# Altium footprint library FPG-YAY.PcbLib: 8 footprints
Each footprint in its own frame and in the unit in brackets; x right, y up, seen from the top. Pads: shape width x height; smd on the part's side, far side on the other; paste and mask are expansions set on the pad; w line width, h text height; cw(c..) or ccw(c..) is an arc to the next point about the centre after c.
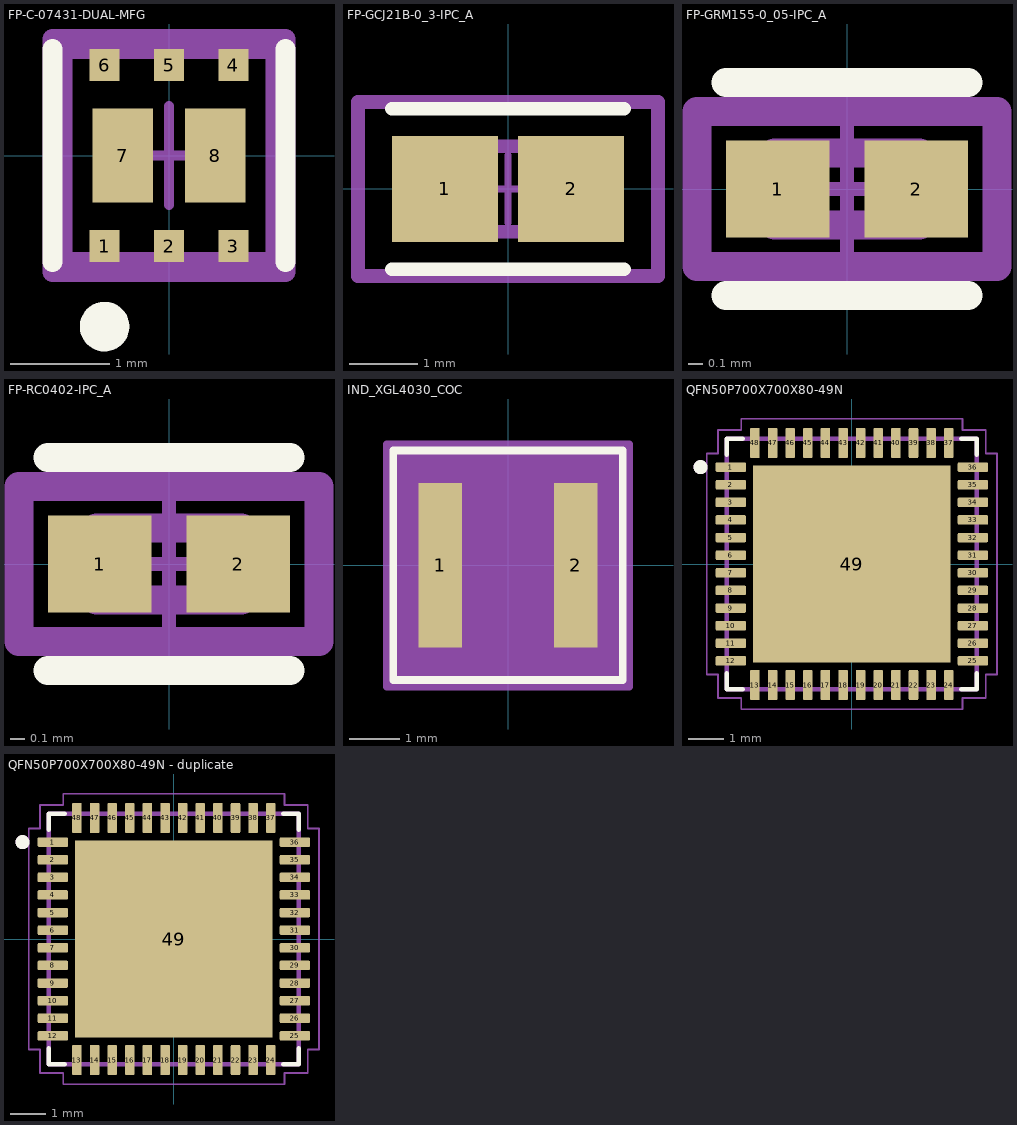
[diagram p0: the footprints below, top view; thin cyan lines are the x and y axes]

## FP-C-07431-DUAL-MFG [mm]
pads (8):
  rect 0.3x0.325 smd paste+0 mask+0: 1(-0.65,-0.913) 2(0,-0.913) 3(0.65,-0.913) 4(0.65,0.913) 5(0,0.913) 6(-0.65,0.913)
  rect 0.613x0.95 smd paste+0 mask+0: 7(-0.466,0) 8(0.466,0)
Top Overlay:
  circle w0.25: c-0.65,-1.725 r0.125
  lines w0.2: -1.175,-1.075 -1.175,1.075 ; 1.175,-1.075 1.175,1.075
Top 3D Body:
  lines w0.2: -1.075,-1.075 -1.075,1.075 1.075,1.075 1.075,-1.075 -1.075,-1.075
Top Courtyard:
  lines w0.2: -1.175,-1.175 -1.175,1.175 1.175,1.175 1.175,-1.175 -1.175,-1.175
Top Assembly:
  lines w0.2: -1.175,-1.175 -1.175,1.175 1.175,1.175 1.175,-1.175 -1.175,-1.175
  text ".Designator" at 0,0.188 h1
Top Component Center:
  lines w0.1: -0.5,0 0.5,0 ; 0,-0.5 0,0.5
3D body "Trans_Vishay_SIA906EDJ-T1-GE3_eec.STEP": height 0.25, standoff 0, extent -1.175,-1.175 1.175,1.175

## FP-GCJ21B-0_3-IPC_A [mm]
pads (2):
  rect 1.553x1.556 smd paste+0 mask+0: 1(-0.925,0) 2(0.925,0)
Top Overlay:
  lines w0.2: -1.702,-1.178 1.702,-1.178 ; -1.702,1.178 1.702,1.178
Top 3D Body:
  lines w0.2: -1,-0.625 1,-0.625 1,0.625 -1,0.625 -1,-0.625
Top Courtyard:
  lines w0.2: -2.202,-1.278 2.202,-1.278 2.202,1.278 -2.202,1.278 -2.202,-1.278
Top Assembly:
  lines w0.2: -2.202,-1.278 2.202,-1.278 2.202,1.278 -2.202,1.278 -2.202,-1.278
  text ".Designator" at 0,0.188 h1
Top Component Center:
  lines w0.1: -0.5,0 0.5,0 ; 0,-0.5 0,0.5
3D body "Cap_Murata_GCJ21BR71H105KA01K_eec.STEP": height 0.25, standoff 0, extent -2.202,-1.278 2.202,1.278

## FP-GRM155-0_05-IPC_A [mm]
pads (2):
  rect 0.715x0.672 smd paste+0 mask+0: 1(-0.479,0) 2(0.479,0)
Top Overlay:
  lines w0.2: -0.836,-0.736 0.836,-0.736 ; -0.836,0.736 0.836,0.736
Top 3D Body:
  lines w0.2: -0.5,-0.25 -0.5,0.25 0.5,0.25 0.5,-0.25 -0.5,-0.25
Top Courtyard:
  lines w0.2: -1.036,-0.536 -1.036,0.536 1.036,0.536 1.036,-0.536 -1.036,-0.536
Top Assembly:
  lines w0.2: -1.036,-0.536 -1.036,0.536 1.036,0.536 1.036,-0.536 -1.036,-0.536
  text ".Designator" at 0,0.188 h1
Top Component Center:
  lines w0.1: -0.5,0 0.5,0 ; 0,-0.5 0,0.5
3D body "Cap_Murata_GRM1552C1H271GA01J_eec.STEP": height 0.25, standoff 0, extent -1.036,-0.536 1.036,0.536

## FP-RC0402-IPC_A [mm]
pads (2):
  rect 0.715x0.672 smd paste+0 mask+0: 1(-0.479,0) 2(0.479,0)
Top Overlay:
  lines w0.2: -0.836,-0.736 0.836,-0.736 ; -0.836,0.736 0.836,0.736
Top 3D Body:
  lines w0.2: -0.5,-0.25 0.5,-0.25 0.5,0.25 -0.5,0.25 -0.5,-0.25
Top Courtyard:
  lines w0.2: -1.036,-0.536 1.036,-0.536 1.036,0.536 -1.036,0.536 -1.036,-0.536
Top Assembly:
  lines w0.2: -1.036,-0.536 1.036,-0.536 1.036,0.536 -1.036,0.536 -1.036,-0.536
  text ".Designator" at 0,0.188 h1
Top Component Center:
  lines w0.1: -0.5,0 0.5,0 ; 0,-0.5 0,0.5
3D body "Res_Yageo_RC0402FR-075KL_eec.STEP": height 0.25, standoff 0, extent -1.036,-0.536 1.036,0.536

## IND_XGL4030_COC [mil]
pads (2):
  rect 34x128 smd paste+0 mask+0: 1(-53,0) 2(53,0)
Top Overlay:
  lines w6: -89.5,-89.5 89.5,-89.5 89.5,89.5 -89.5,89.5 -89.5,-89.5
Mechanical 13:
  circle w0: c-36,0 r3
  lines w0: -12,84.5 ccw(c0,84.5) 12,84.5
  lines w1: -84.5,-84.5 84.5,-84.5 84.5,84.5 -84.5,84.5 -84.5,-84.5
Mechanical 15:
  region: -94.5,-74 -94.5,74 -94.5,94.5 94.5,94.5 94.5,74 94.5,-74 94.5,-94.5 -94.5,-94.5
  lines w6: -94.5,-94.5 -94.5,-74 -94.5,74 -94.5,94.5 94.5,94.5 94.5,74 94.5,-74 94.5,-94.5 -94.5,-94.5
3D body "IND_XGL4030_COC.step": height 122.09, standoff 0, extent -84.49,-84.49 84.49,84.49

## PCBComponent_1 [mm]

## QFN50P700X700X80-49N [mm]
pads (49):
  rrect25% 0.86x0.27 smd: 1(-3.435,2.75) 2(-3.435,2.25) 3(-3.435,1.75) 4(-3.435,1.25) 5(-3.435,0.75) 6(-3.435,0.25) 7(-3.435,-0.25) 8(-3.435,-0.75) 9(-3.435,-1.25) 10(-3.435,-1.75) 11(-3.435,-2.25) 12(-3.435,-2.75) 25(3.435,-2.75) 26(3.435,-2.25) 27(3.435,-1.75) 28(3.435,-1.25) 29(3.435,-0.75) 30(3.435,-0.25) 31(3.435,0.25) 32(3.435,0.75) 33(3.435,1.25) 34(3.435,1.75) 35(3.435,2.25) 36(3.435,2.75)
  rrect25% 0.27x0.86 smd: 13(-2.75,-3.435) 14(-2.25,-3.435) 15(-1.75,-3.435) 16(-1.25,-3.435) 17(-0.75,-3.435) 18(-0.25,-3.435) 19(0.25,-3.435) 20(0.75,-3.435) 21(1.25,-3.435) 22(1.75,-3.435) 23(2.25,-3.435) 24(2.75,-3.435) 37(2.75,3.435) 38(2.25,3.435) 39(1.75,3.435) 40(1.25,3.435) 41(0.75,3.435) 42(0.25,3.435) 43(-0.25,3.435) 44(-0.75,3.435) 45(-1.25,3.435) 46(-1.75,3.435) 47(-2.25,3.435) 48(-2.75,3.435)
  rect 5.6x5.6 smd paste-4: 49(0,0)
Top Overlay:
  circle w0.2: c-4.295,2.75 r0.1
  lines w0.127: -3.55,-3.1 -3.55,-3.55 -3.1,-3.55 ; -3.55,3.1 -3.55,3.55 -3.1,3.55 ; 3.1,-3.55 3.55,-3.55 3.55,-3.1 ; 3.1,3.55 3.55,3.55 3.55,3.1
Top Paste:
  region: 1.771,-1.774 -1.774,-1.774 -1.774,1.771 1.771,1.771
Mechanical 13:
  circle w0.2: c-4.295,2.75 r0.1
  lines w0.127: -3.55,-3.55 3.55,-3.55 3.55,3.55 -3.55,3.55 -3.55,-3.55
Mechanical 15:
  lines w0.05: -4.12,-3.14 -3.8,-3.14 -3.8,-3.8 -3.14,-3.8 -3.14,-4.12 3.14,-4.12 3.14,-3.8 3.8,-3.8 3.8,-3.14 4.12,-3.14 4.12,3.14 3.8,3.14 3.8,3.8 3.14,3.8 3.14,4.12 -3.14,4.12 -3.14,3.8 -3.8,3.8 -3.8,3.14 -4.12,3.14 -4.12,-3.14

## QFN50P700X700X80-49N - duplicate [mm]
pads (49):
  rrect25% 0.86x0.27 smd: 1(-3.435,2.75) 2(-3.435,2.25) 3(-3.435,1.75) 4(-3.435,1.25) 5(-3.435,0.75) 6(-3.435,0.25) 7(-3.435,-0.25) 8(-3.435,-0.75) 9(-3.435,-1.25) 10(-3.435,-1.75) 11(-3.435,-2.25) 12(-3.435,-2.75) 25(3.435,-2.75) 26(3.435,-2.25) 27(3.435,-1.75) 28(3.435,-1.25) 29(3.435,-0.75) 30(3.435,-0.25) 31(3.435,0.25) 32(3.435,0.75) 33(3.435,1.25) 34(3.435,1.75) 35(3.435,2.25) 36(3.435,2.75)
  rrect25% 0.27x0.86 smd: 13(-2.75,-3.435) 14(-2.25,-3.435) 15(-1.75,-3.435) 16(-1.25,-3.435) 17(-0.75,-3.435) 18(-0.25,-3.435) 19(0.25,-3.435) 20(0.75,-3.435) 21(1.25,-3.435) 22(1.75,-3.435) 23(2.25,-3.435) 24(2.75,-3.435) 37(2.75,3.435) 38(2.25,3.435) 39(1.75,3.435) 40(1.25,3.435) 41(0.75,3.435) 42(0.25,3.435) 43(-0.25,3.435) 44(-0.75,3.435) 45(-1.25,3.435) 46(-1.75,3.435) 47(-2.25,3.435) 48(-2.75,3.435)
  rect 5.6x5.6 smd paste-4: 49(0,0)
Top Overlay:
  circle w0.2: c-4.295,2.75 r0.1
  lines w0.127: -3.55,-3.1 -3.55,-3.55 -3.1,-3.55 ; -3.55,3.1 -3.55,3.55 -3.1,3.55 ; 3.1,-3.55 3.55,-3.55 3.55,-3.1 ; 3.1,3.55 3.55,3.55 3.55,3.1
Top Paste:
  region: 1.771,-1.774 -1.774,-1.774 -1.774,1.771 1.771,1.771
Mechanical 13:
  circle w0.2: c-4.295,2.75 r0.1
  lines w0.127: -3.55,-3.55 3.55,-3.55 3.55,3.55 -3.55,3.55 -3.55,-3.55
Mechanical 15:
  lines w0.05: -4.12,-3.14 -3.8,-3.14 -3.8,-3.8 -3.14,-3.8 -3.14,-4.12 3.14,-4.12 3.14,-3.8 3.8,-3.8 3.8,-3.14 4.12,-3.14 4.12,3.14 3.8,3.14 3.8,3.8 3.14,3.8 3.14,4.12 -3.14,4.12 -3.14,3.8 -3.8,3.8 -3.8,3.14 -4.12,3.14 -4.12,-3.14